# Altium footprint library PZ7010S_7020S.PcbLib: 3 footprints
Each footprint in its own frame and in the unit in brackets; x right, y up, seen from the top. Pads: shape width x height; smd on the part's side, far side on the other; paste and mask are expansions set on the pad; w line width, h text height; cw(c..) or ccw(c..) is an arc to the next point about the centre after c.
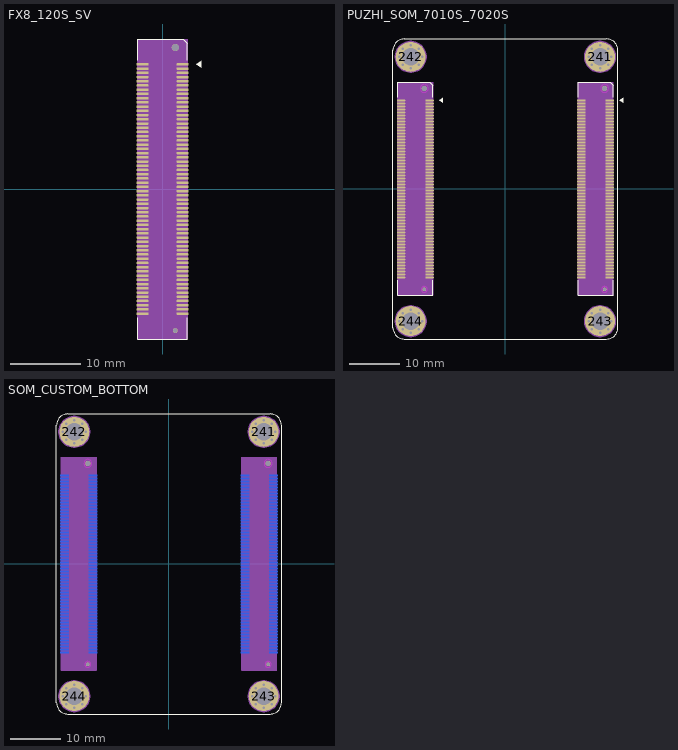
[diagram p0: the footprints below, top view; thin cyan lines are the x and y axes]

## FX8_120S_SV [mm]
pads (122):
  rrect50% 1.702x0.356 smd: 1(2.85,17.7) 2(-2.85,17.7) 3(2.85,17.1) 4(-2.85,17.1) 5(2.85,16.5) 6(-2.85,16.5) 7(2.85,15.9) 8(-2.85,15.9) 9(2.85,15.3) 10(-2.85,15.3) 11(2.85,14.7) 12(-2.85,14.7) 13(2.85,14.1) 14(-2.85,14.1) 15(2.85,13.5) 16(-2.85,13.5) 17(2.85,12.9) 18(-2.85,12.9) 19(2.85,12.3) 20(-2.85,12.3) 21(2.85,11.7) 22(-2.85,11.7) 23(2.85,11.1) 24(-2.85,11.1) 25(2.85,10.5) 26(-2.85,10.5) 27(2.85,9.9) 28(-2.85,9.9) 29(2.85,9.3) 30(-2.85,9.3) 31(2.85,8.7) 32(-2.85,8.7) 33(2.85,8.1) 34(-2.85,8.1) 35(2.85,7.5) 36(-2.85,7.5) 37(2.85,6.9) 38(-2.85,6.9) 39(2.85,6.3) 40(-2.85,6.3) 41(2.85,5.7) 42(-2.85,5.7) 43(2.85,5.1) 44(-2.85,5.1) 45(2.85,4.5) 46(-2.85,4.5) 47(2.85,3.9) 48(-2.85,3.9) 49(2.85,3.3) 50(-2.85,3.3) 51(2.85,2.7) 52(-2.85,2.7) 53(2.85,2.1) 54(-2.85,2.1) 55(2.85,1.5) 56(-2.85,1.5) 57(2.85,0.9) 58(-2.85,0.9) 59(2.85,0.3) 60(-2.85,0.3) 61(2.85,-0.3) 62(-2.85,-0.3) 63(2.85,-0.9) 64(-2.85,-0.9) 65(2.85,-1.5) 66(-2.85,-1.5) 67(2.85,-2.1) 68(-2.85,-2.1) 69(2.85,-2.7) 70(-2.85,-2.7) 71(2.85,-3.3) 72(-2.85,-3.3) 73(2.85,-3.9) 74(-2.85,-3.9) 75(2.85,-4.5) 76(-2.85,-4.5) 77(2.85,-5.1) 78(-2.85,-5.1) 79(2.85,-5.7) 80(-2.85,-5.7) 81(2.85,-6.3) 82(-2.85,-6.3) 83(2.85,-6.9) 84(-2.85,-6.9) 85(2.85,-7.5) 86(-2.85,-7.5) 87(2.85,-8.1) 88(-2.85,-8.1) 89(2.85,-8.7) 90(-2.85,-8.7) 91(2.85,-9.3) 92(-2.85,-9.3) 93(2.85,-9.9) 94(-2.85,-9.9) 95(2.85,-10.5) 96(-2.85,-10.5) 97(2.85,-11.1) 98(-2.85,-11.1) 99(2.85,-11.7) 100(-2.85,-11.7) 101(2.85,-12.3) 102(-2.85,-12.3) 103(2.85,-12.9) 104(-2.85,-12.9) 105(2.85,-13.5) 106(-2.85,-13.5) 107(2.85,-14.1) 108(-2.85,-14.1) 109(2.85,-14.7) 110(-2.85,-14.7) 111(2.85,-15.3) 112(-2.85,-15.3) 113(2.85,-15.9) 114(-2.85,-15.9) 115(2.85,-16.5) 116(-2.85,-16.5) 117(2.85,-17.1) 118(-2.85,-17.1) 119(2.85,-17.7) 120(-2.85,-17.7)
  round 0.7 hole 0.7: " "(1.8,-20.1)
  round 1.016 hole 1.016: " "(1.8,20.1)
Top Overlay:
  region: 5.517,17.192 5.517,18.208 4.755,17.7
  lines w0.15: -3.5,-18.3 -3.5,-21.3 3.5,-21.3 3.5,-18.3 ; -3.5,18.3 -3.5,21.3 2.928,21.3 3.5,20.728 3.5,18.3
Mechanical 9:
  lines w0.025: -3.5,-21.3 3.5,-21.3 3.5,21.3 -3.5,21.3 -3.5,-21.3
  text ".Designator" at 0.114,0 h0.38
Mechanical 10:
  region: -3.5,21.3 -3.5,-21.3 3.5,-21.3 3.5,21.3
Mechanical 11:
  pour cut-out: -3.5,21.3 -3.5,-21.3 3.5,-21.3 3.5,21.3
Multi-Layer:
  circle w0.025: c1.8,20.1 r0.8
  circle w0.025: c1.8,-20.1 r0.6
3D body: height 3.81, standoff 0, extent -3.5,-21.3 3.5,21.3

## PUZHI_SOM_7010S_7020S [mil]
pads (280):
  rrect50% 67x14 smd: 1(-597.05,697.25) 2(-821.46,697.25) 3(-597.05,673.63) 4(-821.46,673.63) 5(-597.05,650.01) 6(-821.46,650.01) 7(-597.05,626.38) 8(-821.46,626.38) 9(-597.05,602.76) 10(-821.46,602.76) 11(-597.05,579.14) 12(-821.46,579.14) 13(-597.05,555.52) 14(-821.46,555.52) 15(-597.05,531.9) 16(-821.46,531.9) 17(-597.05,508.27) 18(-821.46,508.27) 19(-597.05,484.65) 20(-821.46,484.65) 21(-597.05,461.03) 22(-821.46,461.03) 23(-597.05,437.41) 24(-821.46,437.41) 25(-597.05,413.79) 26(-821.46,413.79) 27(-597.05,390.17) 28(-821.46,390.17) 29(-597.05,366.54) 30(-821.46,366.54) 31(-597.05,342.92) 32(-821.46,342.92) 33(-597.05,319.3) 34(-821.46,319.3) 35(-597.05,295.68) 36(-821.46,295.68) 37(-597.05,272.06) 38(-821.46,272.06) 39(-597.05,248.43) 40(-821.46,248.43) 41(-597.05,224.81) 42(-821.46,224.81) 43(-597.05,201.19) 44(-821.46,201.19) 45(-597.05,177.57) 46(-821.46,177.57) 47(-597.05,153.94) 48(-821.46,153.94) 49(-597.05,130.32) 50(-821.46,130.32) 51(-597.05,106.7) 52(-821.46,106.7) 53(-597.05,83.08) 54(-821.46,83.08) 55(-597.05,59.46) 56(-821.46,59.46) 57(-597.05,35.83) 58(-821.46,35.83) 59(-597.05,12.21) 60(-821.46,12.21) 61(-597.05,-11.41) 62(-821.46,-11.41) 63(-597.05,-35.03) 64(-821.46,-35.03) 65(-597.05,-58.65) 66(-821.46,-58.65) 67(-597.05,-82.28) 68(-821.46,-82.28) 69(-597.05,-105.9) 70(-821.46,-105.9) 71(-597.05,-129.52) 72(-821.46,-129.52) 73(-597.05,-153.14) 74(-821.46,-153.14) 75(-597.05,-176.76) 76(-821.46,-176.76) 77(-597.05,-200.39) 78(-821.46,-200.39) 79(-597.05,-224.01) 80(-821.46,-224.01) 81(-597.05,-247.63) 82(-821.46,-247.63) 83(-597.05,-271.25) 84(-821.46,-271.25) 85(-597.05,-294.88) 86(-821.46,-294.87) 87(-597.05,-318.5) 88(-821.46,-318.5) 89(-597.05,-342.12) 90(-821.46,-342.12) 91(-597.05,-365.74) 92(-821.46,-365.74) 93(-597.05,-389.36) 94(-821.46,-389.36) 95(-597.05,-412.99) 96(-821.46,-412.99) 97(-597.05,-436.61) 98(-821.46,-436.61) 99(-597.05,-460.23) 100(-821.46,-460.23) 101(-597.05,-483.85) 102(-821.46,-483.85) 103(-597.05,-507.47) 104(-821.46,-507.47) 105(-597.05,-531.1) 106(-821.46,-531.1) 107(-597.05,-554.72) 108(-821.46,-554.72) 109(-597.05,-578.34) 110(-821.46,-578.34) 111(-597.05,-601.96) 112(-821.46,-601.96) 113(-597.05,-625.58) 114(-821.46,-625.58) 115(-597.05,-649.21) 116(-821.46,-649.21) 117(-597.05,-672.83) 118(-821.46,-672.83) 119(-597.05,-696.45) 120(-821.46,-696.45) 121(822.25,697.25) 122(597.84,697.25) 123(822.25,673.63) 124(597.84,673.63) 125(822.25,650.01) 126(597.84,650.01) 127(822.25,626.38) 128(597.84,626.38) 129(822.25,602.76) 130(597.84,602.76) 131(822.25,579.14) 132(597.84,579.14) 133(822.25,555.52) 134(597.84,555.52) 135(822.25,531.9) 136(597.84,531.9) 137(822.25,508.27) 138(597.84,508.27) 139(822.25,484.65) 140(597.84,484.65) 141(822.25,461.03) 142(597.84,461.03) 143(822.25,437.41) 144(597.84,437.41) 145(822.25,413.79) 146(597.84,413.79) 147(822.25,390.17) 148(597.84,390.17) 149(822.25,366.54) 150(597.84,366.54) 151(822.25,342.92) 152(597.84,342.92) 153(822.25,319.3) 154(597.84,319.3) 155(822.25,295.68) 156(597.84,295.68) 157(822.25,272.06) 158(597.84,272.06) 159(822.25,248.43) 160(597.84,248.43) 161(822.25,224.81) 162(597.84,224.81) 163(822.25,201.19) 164(597.84,201.19) 165(822.25,177.57) 166(597.84,177.57) 167(822.25,153.94) 168(597.84,153.94) 169(822.25,130.32) 170(597.84,130.32) 171(822.25,106.7) 172(597.84,106.7) 173(822.25,83.08) 174(597.84,83.08) 175(822.25,59.46) 176(597.84,59.46) 177(822.25,35.83) 178(597.84,35.83) 179(822.25,12.21) 180(597.84,12.21) 181(822.25,-11.41) 182(597.84,-11.41) 183(822.25,-35.03) 184(597.84,-35.03) 185(822.25,-58.65) 186(597.84,-58.65) 187(822.25,-82.28) 188(597.84,-82.28) 189(822.25,-105.9) 190(597.84,-105.9) 191(822.25,-129.52) 192(597.84,-129.52) 193(822.25,-153.14) 194(597.84,-153.14) 195(822.25,-176.76) 196(597.84,-176.76) 197(822.25,-200.39) 198(597.84,-200.39) 199(822.25,-224.01) 200(597.84,-224.01) 201(822.25,-247.63) 202(597.84,-247.63) 203(822.25,-271.25) 204(597.84,-271.25) 205(822.25,-294.87) 206(597.84,-294.88) 207(822.25,-318.5) 208(597.84,-318.5) 209(822.25,-342.12) 210(597.84,-342.12) 211(822.25,-365.74) 212(597.84,-365.74) 213(822.25,-389.36) 214(597.84,-389.36) 215(822.25,-412.99) 216(597.84,-412.99) 217(822.25,-436.61) 218(597.84,-436.61) 219(822.25,-460.23) 220(597.84,-460.23) 221(822.25,-483.85) 222(597.84,-483.85) 223(822.25,-507.47) 224(597.84,-507.47) 225(822.25,-531.1) 226(597.84,-531.1) 227(822.25,-554.72) 228(597.84,-554.72) 229(822.25,-578.34) 230(597.84,-578.34) 231(822.25,-601.96) 232(597.84,-601.96) 233(822.25,-625.58) 234(597.84,-625.58) 235(822.25,-649.21) 236(597.84,-649.21) 237(822.25,-672.83) 238(597.84,-672.83) 239(822.25,-696.45) 240(597.84,-696.45)
  round 39.37 hole 19.68: 241(655.53,1040.37) 241(681.93,976.77) 241(681.93,1103.97) 241(745.53,950.37) 241(745.53,1130.37) 241(809.13,976.77) 241(809.13,1103.97) 241(835.53,1040.37) 242(-835.53,1040.37) 242(-809.17,976.73) 242(-809.17,1104.01) 242(-745.53,950.37) 242(-745.53,1130.37) 242(-681.89,976.73) 242(-681.89,1104.01) 242(-655.53,1040.37) 243(655.53,-1040.37) 243(681.89,-1104.01) 243(681.89,-976.73) 243(745.53,-1130.37) 243(745.53,-950.37) 243(809.17,-1104.01) 243(809.17,-976.73) 243(835.53,-1040.37) 244(-835.53,-1040.37) 244(-809.17,-1104.01) 244(-809.17,-976.73) 244(-745.53,-950.37) 244(-745.53,-1130.37) 244(-681.89,-1104.01) 244(-681.89,-976.73) 244(-655.53,-1040.37)
  round 236.22 hole 137.8: 241(745.53,1040.37) 242(-745.53,1040.37) 243(745.53,-1040.37) 244(-745.53,-1040.37)
  round 27.56 hole 27.56: " "(-638.39,-790.94) " "(780.91,-790.94)
  round 40 hole 40: " "(-638.39,791.74) " "(780.91,791.74)
Top Overlay:
  region: -492.05,677.25 -492.05,717.25 -522.05,697.25
  region: 927.25,677.25 927.25,717.25 897.25,697.25
  lines w5.91: -847.05,-720.07 -847.05,-838.18 -571.46,-838.18 -571.46,-720.07 ; -847.05,720.87 -847.05,838.98 -593.98,838.98 -571.46,816.46 -571.46,720.87 ; 572.25,-720.07 572.25,-838.18 847.84,-838.18 847.84,-720.07 ; 572.25,720.87 572.25,838.98 826.02,838.98 847.84,817.16 847.84,720.87
  lines w6: -885.41,-1091.15 ccw(c-795.41,-1091.15) -795.41,-1181.15 796.24,-1181.15 ccw(c796.24,-1091.15) 886.24,-1091.15 886.24,1091.06 ccw(c796.24,1091.06) 796.24,1181.06 -795.41,1181.06 ccw(c-795.41,1091.06) -885.41,1091.06 -885.41,-1091.15
Mechanical 9:
  lines w1: -847.05,-838.18 -571.46,-838.18 -571.46,838.98 -847.05,838.98 -847.05,-838.18 ; 572.25,-838.18 847.84,-838.18 847.84,838.98 572.25,838.98 572.25,-838.18
  text ".Designator" at -704.76,0.4 h15
  text ".Designator" at 714.54,0.4 h15
Mechanical 10:
  drawing of 6 lines, arcs and shapes, not listed
Mechanical 11:
  pour cut-out: -847.05,838.98 -847.05,-838.18 -571.46,-838.18 -571.46,838.98
  pour cut-out: 572.25,838.98 572.25,-838.18 847.84,-838.18 847.84,838.98
Multi-Layer keep-out:
  circle w1: c-638.39,791.74 r31.5
  circle w1: c-638.39,-790.94 r23.62
  circle w1: c780.91,791.74 r31.5
  circle w1: c780.91,-790.94 r23.62
3D body: height 150, standoff 0, extent -847.05,-838.18 -571.46,838.98
3D body: height 150, standoff 0, extent 572.25,-838.18 847.84,838.98

## SOM_CUSTOM_BOTTOM [mil]
pads (280):
  rrect50% 67x14 smd far side: 1(-597.05,697.25) 2(-821.46,697.25) 3(-597.05,673.63) 4(-821.46,673.63) 5(-597.05,650.01) 6(-821.46,650.01) 7(-597.05,626.38) 8(-821.46,626.38) 9(-597.05,602.76) 10(-821.46,602.76) 11(-597.05,579.14) 12(-821.46,579.14) 13(-597.05,555.52) 14(-821.46,555.52) 15(-597.05,531.9) 16(-821.46,531.9) 17(-597.05,508.27) 18(-821.46,508.27) 19(-597.05,484.65) 20(-821.46,484.65) 21(-597.05,461.03) 22(-821.46,461.03) 23(-597.05,437.41) 24(-821.46,437.41) 25(-597.05,413.79) 26(-821.46,413.79) 27(-597.05,390.17) 28(-821.46,390.17) 29(-597.05,366.54) 30(-821.46,366.54) 31(-597.05,342.92) 32(-821.46,342.92) 33(-597.05,319.3) 34(-821.46,319.3) 35(-597.05,295.68) 36(-821.46,295.68) 37(-597.05,272.06) 38(-821.46,272.06) 39(-597.05,248.43) 40(-821.46,248.43) 41(-597.05,224.81) 42(-821.46,224.81) 43(-597.05,201.19) 44(-821.46,201.19) 45(-597.05,177.57) 46(-821.46,177.57) 47(-597.05,153.94) 48(-821.46,153.94) 49(-597.05,130.32) 50(-821.46,130.32) 51(-597.05,106.7) 52(-821.46,106.7) 53(-597.05,83.08) 54(-821.46,83.08) 55(-597.05,59.46) 56(-821.46,59.46) 57(-597.05,35.83) 58(-821.46,35.83) 59(-597.05,12.21) 60(-821.46,12.21) 61(-597.05,-11.41) 62(-821.46,-11.41) 63(-597.05,-35.03) 64(-821.46,-35.03) 65(-597.05,-58.65) 66(-821.46,-58.65) 67(-597.05,-82.28) 68(-821.46,-82.28) 69(-597.05,-105.9) 70(-821.46,-105.9) 71(-597.05,-129.52) 72(-821.46,-129.52) 73(-597.05,-153.14) 74(-821.46,-153.14) 75(-597.05,-176.76) 76(-821.46,-176.76) 77(-597.05,-200.39) 78(-821.46,-200.39) 79(-597.05,-224.01) 80(-821.46,-224.01) 81(-597.05,-247.63) 82(-821.46,-247.63) 83(-597.05,-271.25) 84(-821.46,-271.25) 85(-597.05,-294.88) 86(-821.46,-294.87) 87(-597.05,-318.5) 88(-821.46,-318.5) 89(-597.05,-342.12) 90(-821.46,-342.12) 91(-597.05,-365.74) 92(-821.46,-365.74) 93(-597.05,-389.36) 94(-821.46,-389.36) 95(-597.05,-412.99) 96(-821.46,-412.99) 97(-597.05,-436.61) 98(-821.46,-436.61) 99(-597.05,-460.23) 100(-821.46,-460.23) 101(-597.05,-483.85) 102(-821.46,-483.85) 103(-597.05,-507.47) 104(-821.46,-507.47) 105(-597.05,-531.1) 106(-821.46,-531.1) 107(-597.05,-554.72) 108(-821.46,-554.72) 109(-597.05,-578.34) 110(-821.46,-578.34) 111(-597.05,-601.96) 112(-821.46,-601.96) 113(-597.05,-625.58) 114(-821.46,-625.58) 115(-597.05,-649.21) 116(-821.46,-649.21) 117(-597.05,-672.83) 118(-821.46,-672.83) 119(-597.05,-696.45) 120(-821.46,-696.45) 121(822.25,697.25) 122(597.84,697.25) 123(822.25,673.63) 124(597.84,673.63) 125(822.25,650.01) 126(597.84,650.01) 127(822.25,626.38) 128(597.84,626.38) 129(822.25,602.76) 130(597.84,602.76) 131(822.25,579.14) 132(597.84,579.14) 133(822.25,555.52) 134(597.84,555.52) 135(822.25,531.9) 136(597.84,531.9) 137(822.25,508.27) 138(597.84,508.27) 139(822.25,484.65) 140(597.84,484.65) 141(822.25,461.03) 142(597.84,461.03) 143(822.25,437.41) 144(597.84,437.41) 145(822.25,413.79) 146(597.84,413.79) 147(822.25,390.17) 148(597.84,390.17) 149(822.25,366.54) 150(597.84,366.54) 151(822.25,342.92) 152(597.84,342.92) 153(822.25,319.3) 154(597.84,319.3) 155(822.25,295.68) 156(597.84,295.68) 157(822.25,272.06) 158(597.84,272.06) 159(822.25,248.43) 160(597.84,248.43) 161(822.25,224.81) 162(597.84,224.81) 163(822.25,201.19) 164(597.84,201.19) 165(822.25,177.57) 166(597.84,177.57) 167(822.25,153.94) 168(597.84,153.94) 169(822.25,130.32) 170(597.84,130.32) 171(822.25,106.7) 172(597.84,106.7) 173(822.25,83.08) 174(597.84,83.08) 175(822.25,59.46) 176(597.84,59.46) 177(822.25,35.83) 178(597.84,35.83) 179(822.25,12.21) 180(597.84,12.21) 181(822.25,-11.41) 182(597.84,-11.41) 183(822.25,-35.03) 184(597.84,-35.03) 185(822.25,-58.65) 186(597.84,-58.65) 187(822.25,-82.28) 188(597.84,-82.28) 189(822.25,-105.9) 190(597.84,-105.9) 191(822.25,-129.52) 192(597.84,-129.52) 193(822.25,-153.14) 194(597.84,-153.14) 195(822.25,-176.76) 196(597.84,-176.76) 197(822.25,-200.39) 198(597.84,-200.39) 199(822.25,-224.01) 200(597.84,-224.01) 201(822.25,-247.63) 202(597.84,-247.63) 203(822.25,-271.25) 204(597.84,-271.25) 205(822.25,-294.87) 206(597.84,-294.88) 207(822.25,-318.5) 208(597.84,-318.5) 209(822.25,-342.12) 210(597.84,-342.12) 211(822.25,-365.74) 212(597.84,-365.74) 213(822.25,-389.36) 214(597.84,-389.36) 215(822.25,-412.99) 216(597.84,-412.99) 217(822.25,-436.61) 218(597.84,-436.61) 219(822.25,-460.23) 220(597.84,-460.23) 221(822.25,-483.85) 222(597.84,-483.85) 223(822.25,-507.47) 224(597.84,-507.47) 225(822.25,-531.1) 226(597.84,-531.1) 227(822.25,-554.72) 228(597.84,-554.72) 229(822.25,-578.34) 230(597.84,-578.34) 231(822.25,-601.96) 232(597.84,-601.96) 233(822.25,-625.58) 234(597.84,-625.58) 235(822.25,-649.21) 236(597.84,-649.21) 237(822.25,-672.83) 238(597.84,-672.83) 239(822.25,-696.45) 240(597.84,-696.45)
  round 39.37 hole 19.68: 241(655.53,1040.37) 241(681.93,976.77) 241(681.93,1103.97) 241(745.53,950.37) 241(745.53,1130.37) 241(809.13,976.77) 241(809.13,1103.97) 241(835.53,1040.37) 242(-835.53,1040.37) 242(-809.17,976.73) 242(-809.17,1104.01) 242(-745.53,950.37) 242(-745.53,1130.37) 242(-681.89,976.73) 242(-681.89,1104.01) 242(-655.53,1040.37) 243(655.53,-1040.37) 243(681.89,-1104.01) 243(681.89,-976.73) 243(745.53,-1130.37) 243(745.53,-950.37) 243(809.17,-1104.01) 243(809.17,-976.73) 243(835.53,-1040.37) 244(-835.53,-1040.37) 244(-809.17,-1104.01) 244(-809.17,-976.73) 244(-745.53,-950.37) 244(-745.53,-1130.37) 244(-681.89,-1104.01) 244(-681.89,-976.73) 244(-655.53,-1040.37)
  round 236.22 hole 137.8: 241(745.53,1040.37) 242(-745.53,1040.37) 243(745.53,-1040.37) 244(-745.53,-1040.37)
  round 27.56 hole 27.56: " "(-638.39,-790.94) " "(780.91,-790.94)
  round 40 hole 40: " "(-638.39,791.74) " "(780.91,791.74)
Top Overlay:
  lines w6: -885.41,-1091.15 ccw(c-795.41,-1091.15) -795.41,-1181.15 796.24,-1181.15 ccw(c796.24,-1091.15) 886.24,-1091.15 886.24,1091.06 ccw(c796.24,1091.06) 796.24,1181.06 -795.41,1181.06 ccw(c-795.41,1091.06) -885.41,1091.06 -885.41,-1091.15
Bottom Overlay:
  region: 747.25,717.25 747.25,677.25 777.25,697.25
  region: -672.05,717.25 -672.05,677.25 -642.05,697.25
  lines w5.91: -847.05,-720.07 -847.05,-838.18 -571.46,-838.18 -571.46,-720.07 ; -847.05,720.87 -847.05,838.98 -593.98,838.98 -571.46,816.46 -571.46,720.87 ; 572.25,-720.07 572.25,-838.18 847.84,-838.18 847.84,-720.07 ; 572.25,720.87 572.25,838.98 826.02,838.98 847.84,817.16 847.84,720.87
Mechanical 9:
  lines w1: -847.05,-838.18 -571.46,-838.18 -571.46,838.98 -847.05,838.98 -847.05,-838.18 ; 572.25,-838.18 847.84,-838.18 847.84,838.98 572.25,838.98 572.25,-838.18
  text ".Designator" at -704.76,0.4 h15
  text ".Designator" at 714.54,0.4 h15
Mechanical 10:
  drawing of 6 lines, arcs and shapes, not listed
Mechanical 11:
  pour cut-out: 572.25,838.98 572.25,-838.18 847.84,-838.18 847.84,838.98
  pour cut-out: -847.05,838.98 -847.05,-838.18 -571.46,-838.18 -571.46,838.98
Multi-Layer keep-out:
  circle w1: c-638.39,791.74 r31.5
  circle w1: c-638.39,-790.94 r23.62
  circle w1: c780.91,791.74 r31.5
  circle w1: c780.91,-790.94 r23.62
3D body: height 150, standoff 0, extent 572.25,-838.18 847.84,838.98
3D body: height 150, standoff 0, extent -847.05,-838.18 -571.46,838.98